# Altium schematic symbol library Rectangular Connectors - Headers, Male Pins.SchLib: 14 symbols
Pins are listed as number, name and electrical type; pins without a type are passive.

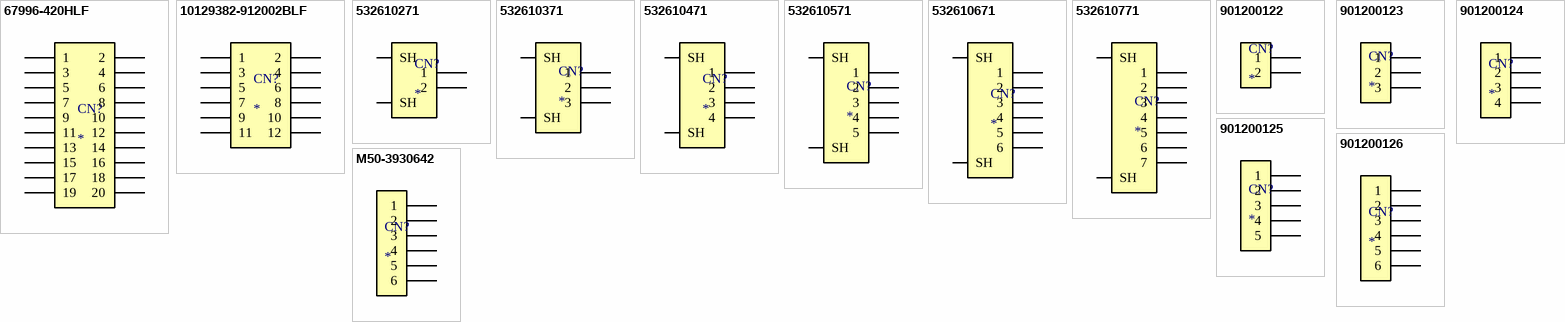
[diagram p0: symbols 67996-420HLF to M50-3930642]

## 67996-420HLF
designator CN?
CONN HEADER VERT 20POS 2.54MM; Supplier 1: Digi-Key; Supplier 2: Mouser; Supplier 3: Arrow Electronics; Supplier Part Number 1: 609-3221-ND; Supplier Part Number 2: 649-67996-420HLF; Supplier Part Number 3: 67996-420HLF
footprint AMPHENOL_67996-420HLF
pins: 1, 2, 3, 4, 5, 6, 7, 8, 9, 10, 11, 12, 13, 14, 15, 16, 17, 18, 19, 20

## 10129382-912002BLF
designator CN?
CONN HEADER R/A 12POS 2.54MM; Supplier 1: Digikey; Supplier Part Number 1: 10129382-912002BLF-ND; Supplier 2: Farnell; Supplier Part Number 2: 3497353; Supplier 3: Mouser; Supplier Part Number 3: 649-1012938291202BLF
footprint AMPHENOL_10129382-912002BLF
pins: 1, 2, 3, 4, 5, 6, 7, 8, 9, 10, 11, 12

## 532610271
designator CN?
CONN HEADER SMD R/A 2POS 1.25MM; Supplier 1: Digi-Key; Supplier 2: Farnell; Supplier 3: Mouser; Supplier 4: Arrow Electronics; Supplier Part Number 1: WM7620CT-ND; Supplier Part Number 2: 1125373; Supplier Part Number 3: 538-53261-0271; Supplier Part Number 4: 53261-0271
footprint MOLEX_0532610271
pins: 1, 2, SH1 SH, SH2 SH

## 532610371
designator CN?
CONN HEADER SMD R/A 3POS 1.25MM; Supplier 1: Digi-Key; Supplier 2: Farnell; Supplier 3: Mouser; Supplier 4: Arrow Electronics; Supplier Part Number 1: WM7621CT-ND; Supplier Part Number 2: 1125359; Supplier Part Number 3: 538-53261-0371; Supplier Part Number 4: 53261-0371
footprint MOLEX_0532610371
pins: 1, 2, 3, SH1 SH, SH2 SH

## 532610471
designator CN?
CONN HEADER SMD R/A 4POS 1.25MM; Supplier 1: Digi-Key; Supplier 2: Farnell; Supplier 3: Mouser; Supplier 4: Arrow Electronics; Supplier Part Number 1: WM7622DKR-ND; Supplier Part Number 2: 1125374; Supplier Part Number 3: 538-53261-0471; Supplier Part Number 4: 53261-0471
footprint MOLEX_0532610471
pins: 1, 2, 3, 4, SH1 SH, SH2 SH

## 532610571
designator CN?
CONN HEADER SMD R/A 5POS 1.25MM; Supplier 1: Digi-Key; Supplier 2: Farnell; Supplier 3: Mouser; Supplier 4: Arrow Electronics; Supplier Part Number 1: WM7623CT-ND; Supplier Part Number 2: 1125360; Supplier Part Number 3: 538-53261-0571; Supplier Part Number 4: 53261-0571
footprint MOLEX_0532610571
pins: 1, 2, 3, 4, 5, SH1 SH, SH2 SH

## 532610671
designator CN?
CONN HEADER SMD R/A 6POS 1.25MM; Supplier 1: Digi-Key; Supplier 2: Farnell; Supplier 3: Mouser; Supplier 4: Arrow Electronics; Supplier Part Number 1: WM7624CT-ND; Supplier Part Number 2: 1125375; Supplier Part Number 3: 538-53261-0671; Supplier Part Number 4: 53261-0671
footprint MOLEX_0532610671
pins: 1, 2, 3, 4, 5, 6, SH1 SH, SH2 SH

## 532610771
designator CN?
CONN HEADER SMD R/A 7POS 1.25MM; Supplier 1: Digi-Key; Supplier 2: Farnell; Supplier 3: Mouser; Supplier 4: Arrow Electronics; Supplier Part Number 1: WM7625CT-ND; Supplier Part Number 2: 1125361; Supplier Part Number 3: 538-53261-0771; Supplier Part Number 4: 53261-0771
footprint MOLEX_0532610771
pins: 1, 2, 3, 4, 5, 6, 7, SH1 SH, SH2 SH

## 901200122
designator CN?
CONN HEADER VERT 2POS 2.54MM; Supplier 1: Digi-Key; Supplier 2: Farnell; Supplier 3: Mouser; Supplier 4: Arrow Electronics; Supplier Part Number 1: WM8072-ND; Supplier Part Number 2: 3051512; Supplier Part Number 3: 538-90120-0122; Supplier Part Number 4: 90120-0122
footprint MOLEX_901200122
pins: 1, 2

## 901200123
designator CN?
CONN HEADER VERT 3POS 2.54MM; Supplier 1: Digi-Key; Supplier 2: Farnell; Supplier 3: Mouser; Supplier 4: Arrow Electronics; Supplier Part Number 1: WM8073-ND; Supplier Part Number 2: 2781972; Supplier Part Number 3: 538-90120-0123; Supplier Part Number 4: 90120-0123
footprint MOLEX_901200123
pins: 1, 2, 3

## 901200124
designator CN?
CONN HEADER VERT 4POS 2.54MM; Supplier 1: Digi-Key; Supplier 2: Farnell; Supplier 3: Mouser; Supplier 4: Arrow Electronics; Supplier Part Number 1: WM8074-ND; Supplier Part Number 2: 3107372; Supplier Part Number 3: 538-90120-0124; Supplier Part Number 4: 90120-0124
footprint MOLEX_901200124
pins: 1, 2, 3, 4

## 901200125
designator CN?
CONN HEADER VERT 5POS 2.54MM; Supplier 1: Digi-Key; Supplier 2: Mouser; Supplier 3: Arrow Electronics; Supplier Part Number 1: WM8075-ND; Supplier Part Number 2: 538-90120-0125; Supplier Part Number 3: 90120-0125
footprint MOLEX_901200125
pins: 1, 2, 3, 4, 5

## 901200126
designator CN?
CONN HEADER VERT 6POS 2.54MM; Supplier 1: Digi-Key; Supplier 2: Farnell; Supplier 3: Mouser; Supplier 4: Arrow Electronics; Supplier Part Number 1: WM8076-ND; Supplier Part Number 2: 2313717; Supplier Part Number 3: 538-90120-0126; Supplier Part Number 4: 90120-0126
footprint MOLEX_901200126
pins: 1, 2, 3, 4, 5, 6

## M50-3930642
designator CN?
CONN HEADER R/A 6POS 1.27MM; Supplier 1: Digi-Key; Supplier 2: Farnell; Supplier 3: Mouser; Supplier Part Number 1: 952-3618-ND; Supplier Part Number 2: 3226061; Supplier Part Number 3: 855-M50-3930642
footprint HARWIN_M50-3930642
pins: 1, 2, 3, 4, 5, 6